# EAGLE library part S8B-EH (library S8B-EH)
JST EH series 2.5mm pitch header. Right angled. 8 pin. Check availability <https://pricing.snapeda.com/parts/S8B-EH/JST%20Sales/view-part?ref=eda>
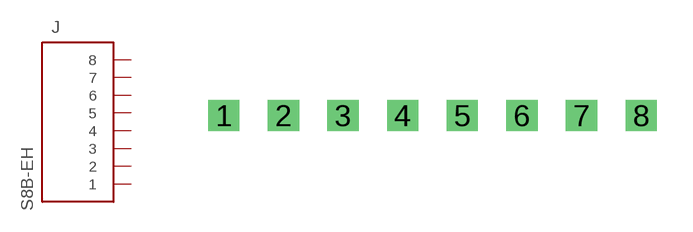
[diagram p0: symbol with the pads of JST_S8B-EH; footprint JST_S8B-EH]

Designator prefix J

## S8B-EH (Availability: In Stock; Description: Connector Header Through Hole, Right Angle 8 position 0.098 (2.50mm); MF: JST Sales; MP: S8B-EH; Package: None; Price: None; Purchase-URL: https://pricing.snapeda.com/search/part/S8B-EH/?ref=eda)  [JST_S8B-EH]
1  1  pas
2  2  pas
3  3  pas
4  4  pas
5  5  pas
6  6  pas
7  7  pas
8  8  pas

## Footprint JST_S8B-EH (pad centres in mm)
JST EH series 2.5mm pitch header. Right angled. 8 pin. [Dummy]
drill 0.8 square: 1 -7.5,0; 2 -5,0; 3 -2.5,0; 4 0,0; 5 2.5,0; 6 5,0; 7 7.5,0; 8 10,0